# Altium footprint library LM2596S_5.0.PcbLib: 15 footprints
Each footprint in its own frame and in the unit in brackets; x right, y up, seen from the top. Pads: shape width x height; smd on the part's side, far side on the other; paste and mask are expansions set on the pad; w line width, h text height; cw(c..) or ccw(c..) is an arc to the next point about the centre after c.
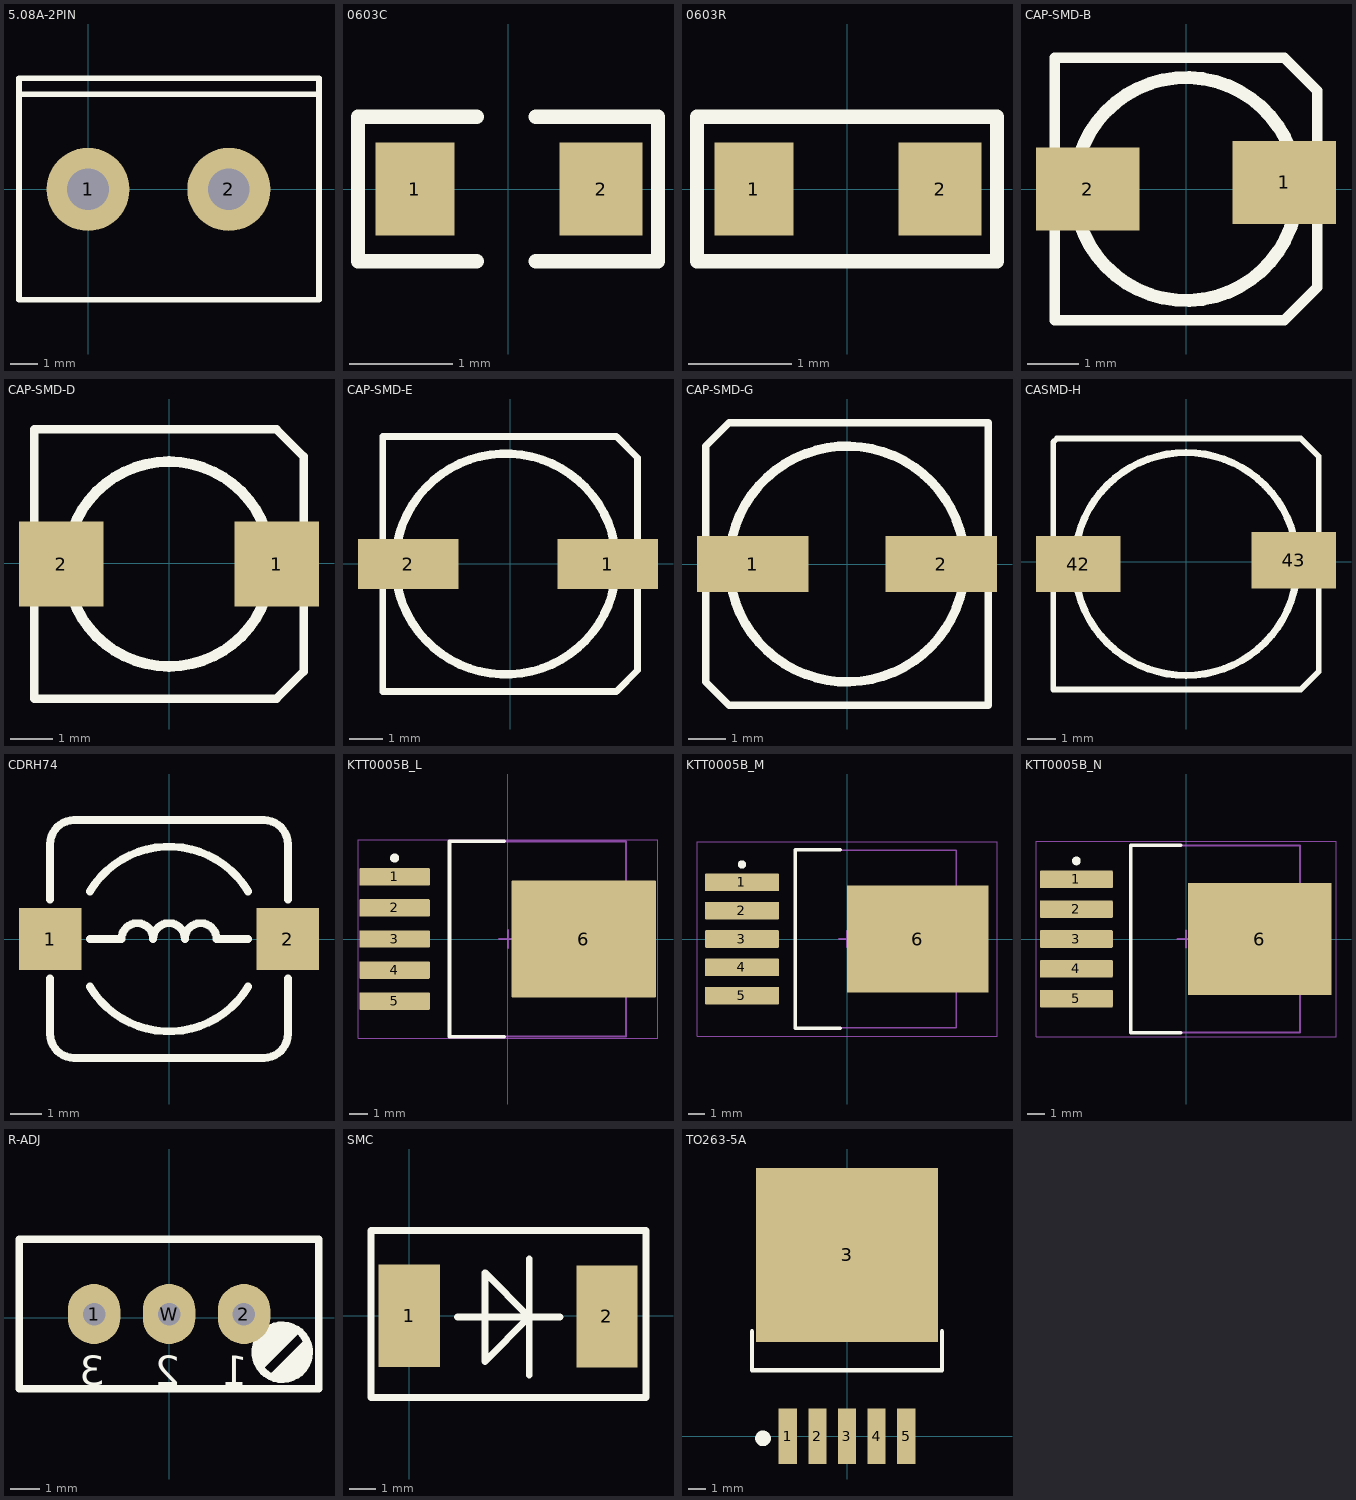
[diagram p0: the footprints below, top view; thin cyan lines are the x and y axes]

## 5.08A-2PIN [mm]
pads (2):
  round 3 hole 1.5: 1(0,0) 2(5.08,0)
Top Overlay:
  lines w0.2: -2.489,3.429 8.255,3.429 ; -2.489,-3.988 -2.489,4.013 8.331,4.013 8.331,-3.988 -2.489,-3.988
3D body "2-5.08 (2).stp": height 14.2, standoff -3.5, extent -2.54,-5.205 8.361,4.595

## 0603C [mm]
pads (2):
  rect 0.762x0.9 smd: 1(-0.9,0)
  rect 0.8x0.9 smd: 2(0.9,0)
Top Overlay:
  lines w0.14: -0.3,-0.7 -1.45,-0.7 -1.45,0.7 -0.3,0.7 ; 0.266,-0.7 1.45,-0.7 1.45,0.7 0.266,0.7
3D body "User Library-0603 SMD Capacitor.STEP": height 0.3, standoff 0, extent -0.8,-0.4 0.8,0.4

## 0603R [mm]
pads (2):
  rect 0.762x0.9 smd: 1(-0.9,0)
  rect 0.8x0.9 smd: 2(0.9,0)
Top Overlay:
  lines w0.14: -1.45,-0.7 -1.45,0.7 1.45,0.7 1.45,-0.7 -1.45,-0.7
3D body "User Library-RES_1609-0603.STEP": height 0.56, standoff 0, extent -0.85,-0.4 0.85,0.4

## CAP-SMD-B [mm]
pads (2):
  rect 2x1.6 / inner rect 0x0 / far side rect 0x0 all layers, no hole: 1(1.905,0.136) 2(-1.905,0.009)
Top Overlay:
  circle w0.254: c0,0.009 r2.159
  lines w0.2: -2.54,-2.531 -2.54,2.549 1.905,2.549 2.54,1.914 2.54,-1.896 1.905,-2.531 -2.54,-2.531
3D body "SL-B.STEP": height 5.2, standoff 0, extent -2.3,-2.15 2.3,2.15

## CAP-SMD-D [mm]
pads (2):
  rect 2x2 / inner rect 0x0 / far side rect 0x0 all layers, no hole: 1(2.54,-0.017) 2(-2.54,-0.017)
Top Overlay:
  circle w0.254: c0,-0.017 r2.416
  lines w0.2: -3.175,-3.192 2.54,-3.192 3.175,-2.557 3.175,2.523 2.54,3.158 -3.175,3.158 -3.175,-3.192
3D body "SL-D.STEP": height 5.2, standoff 0, extent -2.8,-2.65 2.8,2.65

## CAP-SMD-E [mm]
pads (2):
  rect 3x1.5 / inner rect 0x0 / far side rect 0x0 all layers, no hole: 1(2.921,-0.002) 2(-3.048,-0.002)
Top Overlay:
  circle w0.254: c-0.129,-0.002 r3.304
  lines w0.2: -3.81,-3.812 3.175,-3.812 3.81,-3.177 3.81,3.173 3.175,3.808 -3.81,3.808 -3.81,-3.812
3D body "SL-E.STEP": height 5.2, standoff 0, extent -3.5,-3.3 3.5,3.3

## CAP-SMD-G [mm]
pads (2):
  rect 3x1.5 / inner rect 0x0 / far side rect 0x0 all layers, no hole: 1(-2.54,0.002) 2(2.54,0.002)
Top Overlay:
  circle w0.254: c0,0.002 r3.175
  lines w0.2: -3.81,-3.173 -3.175,-3.808 3.81,-3.808 3.81,3.812 3.556,3.812 -3.175,3.812 -3.81,3.177 -3.81,-3.173
3D body "SL-G.STEP": height -0.5, standoff -8.2, extent -3.5,-3.3 3.5,3.3

## CASMD-H [mm]
pads (2):
  rect 3x2 / inner rect 0x0 / far side rect 0x0 all layers, no hole: 42(-3.81,-0.086) 43(3.81,0.041)
Top Overlay:
  circle w0.254: c0,-0.086 r3.945
  lines w0.2: -4.699,-4.531 -4.699,4.232 -4.572,4.359 4.064,4.359 4.699,3.724 4.699,-3.896 4.064,-4.531 -4.699,-4.531
3D body "SL-H.STEP": height 10.5, standoff 0, extent -4.5,-4.15 4.5,4.15

## CDRH74 [mm] "7.3*7.3*4.5mm（长宽高）"
pads (2):
  rect 2x2 smd: 1(-3.81,0) 2(3.81,0)
Top Overlay:
  lines w0.254: -3.81,-1.27 -3.81,-3.048 ccw(c-3.048,-3.048) -3.048,-3.81 3.048,-3.81 ccw(c3.048,-3.048) 3.81,-3.048 3.81,-1.27 ; -3.81,1.27 -3.81,3.048 cw(c-3.048,3.048) -3.048,3.81 3.048,3.81 cw(c3.048,3.048) 3.81,3.048 3.81,1.27 ; -2.54,-1.524 ccw(c0,0) 2.54,-1.524 ; -2.54,0 -1.524,0 cw(c-1.016,0) -0.508,0 cw(c0,0) 0.508,0 cw(c1.016,0) 1.524,0 2.54,0 ; -2.54,1.524 cw(c0,0) 2.54,1.524
3D body "CDRH74.STEP": height 4.5, standoff 0, extent -3.65,-3.65 3.65,3.65

## KTT0005B_L [mm] "DPAK, 5-Leads, Body 10.65x9.65mm, Pitch 1.7mm, IPC High Density"
height 4.83
pads (6):
  rrect11% 3.85x0.95 smd: 1(-6.2,3.4) 2(-6.2,1.7) 3(-6.2,0) 4(-6.2,-1.7) 5(-6.2,-3.4)
  rrect2% 7.9x6.4 smd: 6(4.15,0)
Top Overlay:
  circle w0.25: c-6.2,4.425 r0.125
  lines w0.2: -0.2,-5.35 -3.2,-5.35 -3.2,5.35 -0.2,5.35
Mechanical 1:
  text ".Designator" at -1.905,-0.508 h1.3
Mechanical 13:
  lines w0.1: -3.2,-5.325 6.45,-5.325 6.45,5.325 -3.2,5.325 -3.2,-5.325
Mechanical 15:
  lines w0.05: -8.2,-5.425 8.2,-5.425 8.2,5.425 -8.2,5.425 -8.2,-5.425
  lines w0.1: -0.5,0 0.5,0 ; 0,-0.5 0,0.5
3D body "NOPB.STEP": height 4.65, standoff -0.15, extent -7.302,-5.08 7.049,5.08

## KTT0005B_M [mm] "DPAK, 5-Leads, Body 10.65x9.65mm, Pitch 1.7mm, IPC Low Density"
height 4.83
pads (6):
  rrect10% 4.45x1.05 smd: 1(-6.3,3.4) 2(-6.3,1.7) 3(-6.3,0) 4(-6.3,-1.7) 5(-6.3,-3.4)
  rrect2% 8.5x6.45 smd: 6(4.25,0)
Top Overlay:
  circle w0.25: c-6.3,4.475 r0.125
  lines w0.2: -0.4,-5.35 -3.1,-5.35 -3.1,5.35 -0.4,5.35
Mechanical 1:
  text ".Designator" at -1.905,-0.635 h1.3
Mechanical 13:
  lines w0.1: -3.1,-5.325 6.55,-5.325 6.55,5.325 -3.1,5.325 -3.1,-5.325
Mechanical 15:
  lines w0.05: -9,-5.825 9,-5.825 9,5.825 -9,5.825 -9,-5.825
  lines w0.1: -0.5,0 0.5,0 ; 0,-0.5 0,0.5
3D body "NOPB.STEP": height 4.65, standoff -0.15, extent -7.175,-5.08 7.176,5.08

## KTT0005B_N [mm] "DPAK, 5-Leads, Body 10.65x9.65mm, Pitch 1.7mm, IPC Medium Density"
height 4.83
pads (6):
  rrect10% 4.15x1 smd: 1(-6.25,3.4) 2(-6.25,1.7) 3(-6.25,0) 4(-6.25,-1.7) 5(-6.25,-3.4)
  rrect2% 8.2x6.4 smd: 6(4.2,0)
Top Overlay:
  circle w0.25: c-6.25,4.45 r0.125
  lines w0.2: -0.3,-5.35 -3.15,-5.35 -3.15,5.35 -0.3,5.35
Mechanical 1:
  text ".Designator" at -1.905,-0.508 h1.3
Mechanical 13:
  lines w0.1: -3.15,-5.325 -3.15,5.325 6.5,5.325 6.5,-5.325 -3.15,-5.325
Mechanical 15:
  lines w0.05: -8.55,-5.575 -8.55,5.575 8.55,5.575 8.55,-5.575 -8.55,-5.575
  lines w0.1: -0.5,0 0.5,0 ; 0,-0.5 0,0.5
3D body "NOPB.STEP": height 4.65, standoff -0.15, extent -7.175,-5.08 7.175,5.08

## R-ADJ [mil]
pads (3):
  oval 70x80 hole 30: 1(-100,5) 2(100,5) W(0,5)
Top Overlay:
  circle w10: c151,-46 r36.06
  lines w10: 157.76,-69.24 164.24,-69.24 171,-76 ; 171,-16 151,-36 121,-66 121,-56 161,-16 141,-16 ; 172.88,-74.12 171,-76 ; 181,-36 141,-76 151,-76 ; 131,-26 121,-36 121,-46 141,-26 ; 131,-26 141,-16 ; 131,-26 141,-26 ; 141,-26 141,-16 ; 141,-26 151,-26 141,-16 ; 151,-76 171,-76 ; 151,-76 166.82,-60.18 172.88,-60.18 187.06,-46 187.06,-42.06 172.88,-56.23 170.77,-56.23 171,-56.47 171,-76 ; -200,-95 0,-95 200,-95 200,105 -200,105 -200,-95
  text "3" at -85,-90 h39.37
  text "2" at 15,-90 h39.37
  text "1" at 105,-90 h39.37
3D body "User Library-3296.STEP": height 452.76, standoff -161.42, extent -187.01,-90 187.01,100.94

## SMC [mil] "DO-214AB(2114)"
pads (2):
  rect 90x149.84 smd: 1(0,0)
  rect 90x149.63 smd: 2(290,-1)
Top Overlay:
  lines w10: 71,-2 221,-2 ; 176,-87 176,83 ; -56,-120 -56,125 347,125 347,-120 -56,-120 ; 111,-67 176,-2 111,63 111,-67
3D body "DO-214AB.STEP": height 106.3, standoff 0, extent -14.84,-117.09 304.84,127

## TO263-5A [mm] "263，5脚晶体管"
pads (6):
  rect 1.05x3.2 smd: 1(-3.4,0) 2(-1.7,0) 3(0,0) 4(1.7,0) 5(3.4,0)
  rect 10.45x10 smd: 3(0,10.414)
Top Overlay:
  circle w0.5: c-4.826,-0.127 r0.2
  lines w0.254: -5.461,6.037 -5.461,3.787 5.461,3.787 5.461,6.037
3D body "TO263-5A.STEP": height 4.5, standoff 0, extent -5,-0.01 5,13.317